# Altium schematic symbol library N_DEP_MOSFET.Schlib: 1 symbol
Pins are listed as number, name and electrical type; pins without a type are passive.

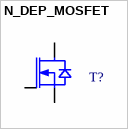
[diagram p0: symbol N_DEP_MOSFET]

## N_DEP_MOSFET
designator T?
N-Channel Depletion MOSFET
pins: D, G, S